# Altium footprint library MECH400ETB.PcbLib: 24 footprints (part 2 of 2)
Each footprint in its own frame and in the unit in brackets; x right, y up, seen from the top. Pads: shape width x height; smd on the part's side, far side on the other; paste and mask are expansions set on the pad; w line width, h text height; cw(c..) or ccw(c..) is an arc to the next point about the centre after c.
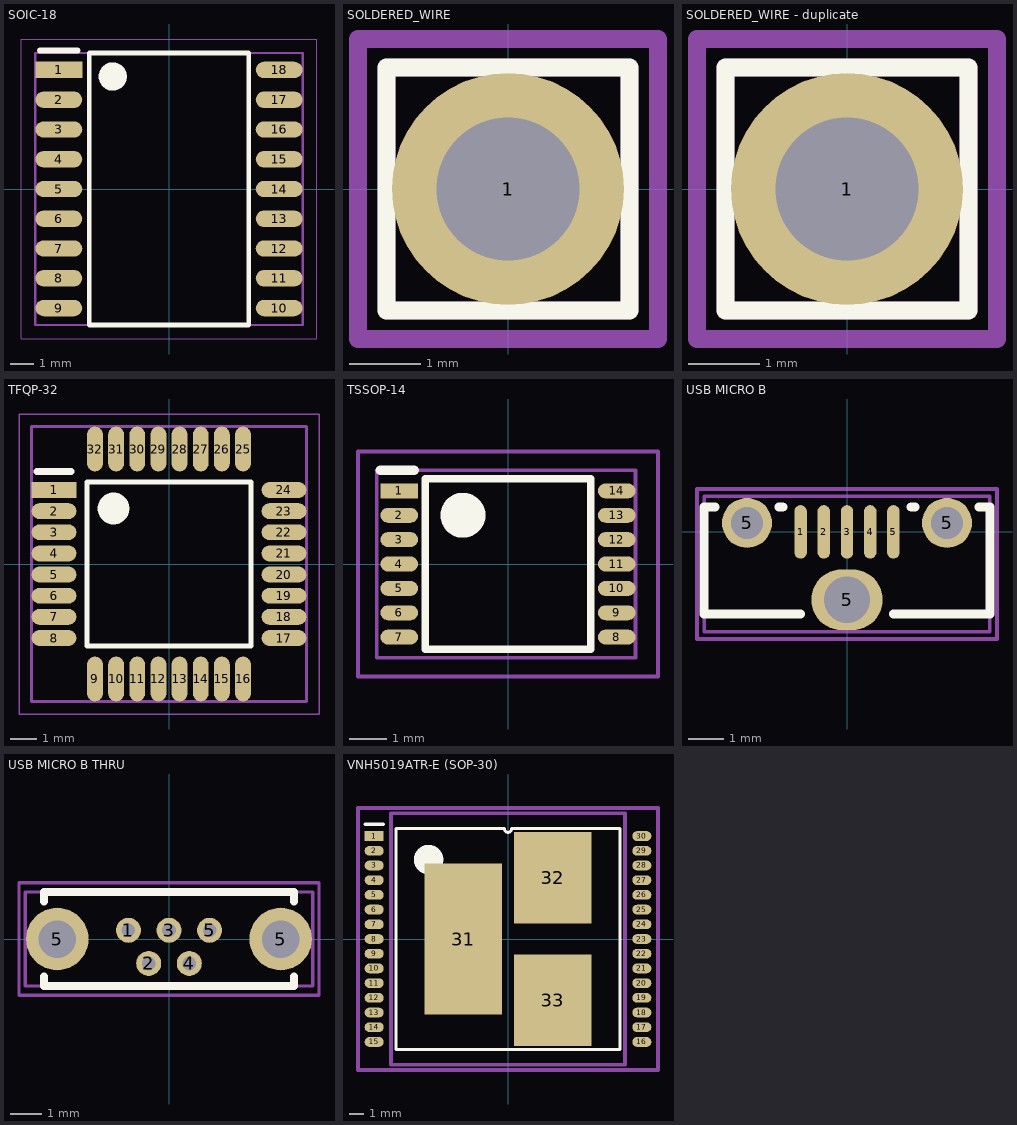
[diagram p1: the footprints below, top view; thin cyan lines are the x and y axes]

## SOIC-18 [mm] "SOIC, 18-Leads, Body 11.50x7.50mm, Pitch 1.27mm, IPC Low Density"
height 2.65
pads (18):
  rect 2x0.7 smd: 1(-4.7,5.08)
  oval 2x0.7 smd: 2(-4.7,3.81) 3(-4.7,2.54) 4(-4.7,1.27) 5(-4.7,0) 6(-4.7,-1.27) 7(-4.7,-2.54) 8(-4.7,-3.81) 9(-4.7,-5.08) 10(4.7,-5.08) 11(4.7,-3.81) 12(4.7,-2.54) 13(4.7,-1.27) 14(4.7,0) 15(4.7,1.27) 16(4.7,2.54) 17(4.7,3.81) 18(4.7,5.08)
Top Overlay:
  circle w0.6: c-2.4,4.8 r0.3
  lines w0.2: -3.4,-5.8 -3.4,5.8 3.4,5.8 3.4,-5.8 -3.4,-5.8
  lines w0.254: -5.5,5.9 -3.9,5.9
Mechanical 13:
  lines w0.1: -5.7,-5.8 -5.7,5.8 5.7,5.8 5.7,-5.8 -5.7,-5.8
Mechanical 15:
  lines w0.05: -6.3,-6.4 -6.3,6.4 6.3,6.4 6.3,-6.4 -6.3,-6.4
3D body: height 2.65, standoff 0.1, extent -3.8,-5.8 3.8,5.8

## SOLDERED_WIRE [mm] "Direct connect to board"
pads (1):
  round 3.25 hole 2: 1(0,0)
Top Overlay:
  lines w0.254: -1.7,-1.7 -1.7,1.7 1.7,1.7 1.7,-1.7 -1.7,-1.7
Mechanical 13:
  lines w0.254: -1.7,-1.7 -1.7,1.7 1.7,1.7 1.7,-1.7 -1.7,-1.7
Mechanical 15:
  lines w0.254: -2.1,-2.1 2.1,-2.1 2.1,2.1 -2.1,2.1 -2.1,-2.1

## SOLDERED_WIRE - duplicate [mm] "Direct connect to board"
pads (1):
  round 3.25 hole 2: 1(0,0)
Top Overlay:
  lines w0.254: -1.7,-1.7 -1.7,1.7 1.7,1.7 1.7,-1.7 -1.7,-1.7
Mechanical 13:
  lines w0.254: -1.7,-1.7 -1.7,1.7 1.7,1.7 1.7,-1.7 -1.7,-1.7
Mechanical 15:
  lines w0.254: -2.1,-2.1 2.1,-2.1 2.1,2.1 -2.1,2.1 -2.1,-2.1

## TFQP-32 [mm] "TQFP, 32-Leads, Body 7.00x7.00mm, Pitch 0.80mm, IPC Low Density"
height 1.2
pads (32):
  rect 1.7x0.6 smd: 1(-4.35,2.8)
  oval 1.7x0.6 smd: 2(-4.35,2) 3(-4.35,1.2) 4(-4.35,0.4) 5(-4.35,-0.4) 6(-4.35,-1.2) 7(-4.35,-2) 8(-4.35,-2.8) 17(4.35,-2.8) 18(4.35,-2) 19(4.35,-1.2) 20(4.35,-0.4) 21(4.35,0.4) 22(4.35,1.2) 23(4.35,2) 24(4.35,2.8)
  oval 0.6x1.7 smd: 9(-2.8,-4.35) 10(-2,-4.35) 11(-1.2,-4.35) 12(-0.4,-4.35) 13(0.4,-4.35) 14(1.2,-4.35) 15(2,-4.35) 16(2.8,-4.35) 25(2.8,4.35) 26(2,4.35) 27(1.2,4.35) 28(0.4,4.35) 29(-0.4,4.35) 30(-1.2,4.35) 31(-2,4.35) 32(-2.8,4.35)
Top Overlay:
  circle w0.6: c-2.1,2.1 r0.3
  lines w0.2: -3.1,-3.1 3.1,-3.1 3.1,3.1 -3.1,3.1 -3.1,-3.1
  lines w0.254: -5,3.5 -3.7,3.5
Mechanical 13:
  lines w0.1: -5.2,-5.2 5.2,-5.2 5.2,5.2 -5.2,5.2 -5.2,-5.2
Mechanical 15:
  lines w0.05: -5.675,-5.675 5.675,-5.675 5.675,5.675 -5.675,5.675 -5.675,-5.675
3D body: height 1.2, standoff 0.05, extent -3.5,-3.5 3.5,3.5

## TSSOP-14 [mm]
pads (14):
  rect 1x0.4 smd: 1(-2.9,1.95)
  oval 1x0.4 smd: 2(-2.9,1.3) 3(-2.9,0.65) 4(-2.9,0) 5(-2.9,-0.65) 6(-2.9,-1.3) 7(-2.9,-1.95) 8(2.9,-1.95) 9(2.9,-1.3) 10(2.9,-0.65) 11(2.9,0) 12(2.9,0.65) 13(2.9,1.3) 14(2.9,1.95)
Top Overlay:
  circle w0.6: c-1.2,1.3 r0.3
  lines w0.2: -2.2,-2.275 -2.2,2.275 2.2,2.275 2.2,-2.275 -2.2,-2.275
  lines w0.254: -3.4,2.5 -2.5,2.5
Mechanical 13:
  lines w0.1: -3.5,-2.5 -3.5,2.5 3.4,2.5 3.4,-2.5 -3.5,-2.5
Mechanical 15:
  lines w0.1: -4,-3 4,-3 4,3 -4,3 -4,-3
3D body: height 1.2, standoff 0, extent -2.2,-2.5 2.2,2.5

## USB MICRO B [mm]
pads (8):
  oval 0.35x1.5 smd: 1(-1.3,0) 2(-0.65,0) 3(0,0) 4(0.65,0) 5(1.3,0)
  round 1.4 hole 0.9: 5(-2.8,0.25) 5(2.8,0.25)
  oval 2x1.7 hole 1.3: 5(0,-1.9)
Top Overlay:
  lines w0.254: -3.7,0.7 -4,0.7 -4,-2.3 -1.3,-2.3 ; -1.9,0.7 -1.8,0.7 ; 1.3,-2.3 4,-2.3 4,0.7 3.7,0.7 ; 1.8,0.7 1.9,0.7
Mechanical 13:
  lines w0.1: -4,-2.8 4,-2.8 4,1 -4,1 -4,-2.8
Mechanical 15:
  lines w0.1: -4.2,-3 4.2,-3 4.2,1.2 -4.2,1.2 -4.2,-3
3D body: height 6.7, standoff 0, extent -4,-2.3 4,0.7

## USB MICRO B THRU [mm]
pads (7):
  round 0.8 hole 0.44: 1(-1.3,0.28) 2(-0.65,-0.78) 3(0,0.28) 4(0.65,-0.78) 5(1.3,0.28)
  round 2 hole 1.2: 5(-3.575,0) 5(3.575,0)
Top Overlay:
  lines w0.254: -4,-1.2 -4,-1.5 4,-1.5 4,-1.2 ; -4,1.2 -4,1.5 4,1.5 4,1.2
Mechanical 13:
  lines w0.1: -4.6,-1.5 -4.6,1.5 4.6,1.5 4.6,-1.5 -4.6,-1.5
Mechanical 15:
  lines w0.1: -4.8,-1.8 -4.8,1.8 4.8,1.8 4.8,-1.8 -4.8,-1.8
3D body: height 5.61, standoff 0, extent -4,-1.5 4,1.5

## VNH5019ATR-E (SOP-30) [mm]
pads (33):
  rect 1.3x0.66 smd: 1(-9.1,7)
  oval 1.3x0.66 smd: 2(-9.1,6) 3(-9.1,5) 4(-9.1,4) 5(-9.1,3) 6(-9.1,2) 7(-9.1,1) 8(-9.1,0) 9(-9.1,-1) 10(-9.1,-2) 11(-9.1,-3) 12(-9.1,-4) 13(-9.1,-5) 14(-9.1,-6) 15(-9.1,-7) 16(9.1,-7) 17(9.1,-6) 18(9.1,-5) 19(9.1,-4) 20(9.1,-3) 21(9.1,-2) 22(9.1,-1) 23(9.1,0) 24(9.1,1) 25(9.1,2) 26(9.1,3) 27(9.1,4) 28(9.1,5) 29(9.1,6) 30(9.1,7)
  rect 5.25x10.3 smd: 31(-3.05,0)
  rect 5.25x6.23 smd: 32(3.05,4.165) 33(3.05,-4.165)
Top Overlay:
  circle w1: c-5.4,5.4 r0.5
  lines w0.2: -7.615,-7.5 7.615,-7.5 7.615,7.5 0.25,7.5 cw(c0,7.5) -0.25,7.5 -7.615,7.5 -7.615,-7.5
  lines w0.254: -9.7,7.8 -8.5,7.8
Mechanical 13:
  lines w0.254: -7.95,-8.55 -7.95,8.55 7.95,8.55 7.95,-8.55 -7.95,-8.55
Mechanical 15:
  lines w0.254: -10.2,-8.9 -10.2,8.9 10.2,8.9 10.2,-8.9 -10.2,-8.9
3D body: height 2.35, standoff 0, extent -7.95,-8.55 7.95,8.55